# EAGLE library part LED-TRICOLOR-5050 (library adjacent-reality)
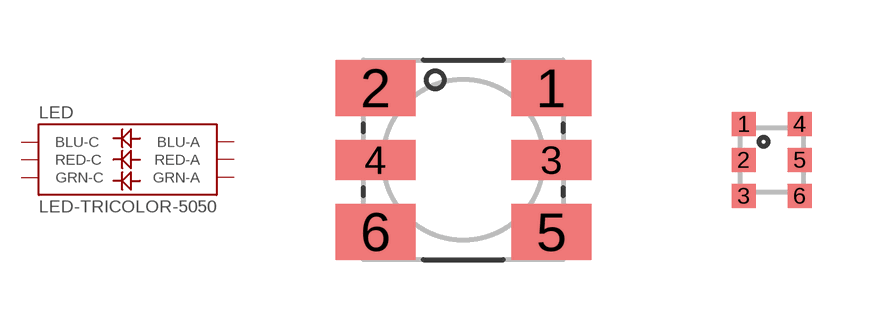
[diagram p6: symbol with the pads of LED-TRICOLOR-5050; footprints LED-TRICOLOR-5050, 0606]

Designator prefix LED

## LED-TRICOLOR-5050  [LED-TRICOLOR-5050]
1  GRN-A
2  RED-A
3  BLU-A
4  BLU-C
5  RED-C
6  GRN-C

## LED-TRICOLOR-5050LED-TRICOLOR-0606  [0606]
1  BLU-C
2  RED-C
3  GRN-C
4  BLU-A
5  RED-A
6  GRN-A

## Footprint LED-TRICOLOR-5050 (pad centres in mm)
5050 SMD RGB LED 5.0mm x 5.0mm, 2.6mm thickness
smd 2 x 1.4: 1 2.2,1.8; 2 -2.2,1.8; 5 2.2,-1.8; 6 -2.2,-1.8
smd 2 x 1: 3 2.2,0; 4 -2.2,0

## Footprint 0606 (pad centres in mm)
smd 0.6 x 0.6: 1 -0.7,0.9; 2 -0.7,0; 3 -0.7,-0.9; 4 0.7,0.9; 5 0.7,0; 6 0.7,-0.9